# EAGLE library part DIP04S (library 1A-meinLib)
DIL/CODE SWITCH
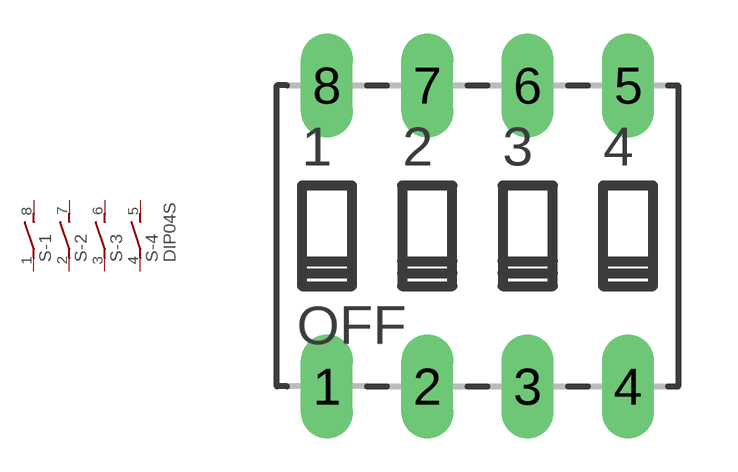
[diagram p240: symbol with the pads of DIP04S; footprint DIP04S]

Designator prefix S; gates -1=S -2=S -3=S -4=S+V

## DIP04S  [DIP04S]
1  -1:C  pas
2  -2:C  pas
3  -3:C  pas
4  -4:C  pas
5  -4:NO  pas
6  -3:NO  pas
7  -2:NO  pas
8  -1:NO  pas

## Footprint DIP04S (pad centres in mm)
DIL/CODE SWITCH small
drill 0.813 long: 1 -3.81,-3.81; 2 -1.27,-3.81; 3 1.27,-3.81; 4 3.81,-3.81; 5 3.81,3.81; 6 1.27,3.81; 7 -1.27,3.81; 8 -3.81,3.81